# Altium schematic symbol library GRM033R71E271KA01D.SchLib: 1 symbol
Pins are listed as number, name and electrical type; pins without a type are passive.

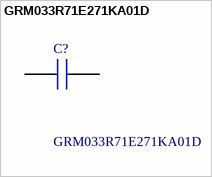
[diagram p0: symbol GRM033R71E271KA01D]

## GRM033R71E271KA01D
designator C?
Chip Capacitor value 271; Manufacturer_Name: Murata Electronics; Geometry.Height: 0.33mm; Manufacturer_Part_Number: GRM033R71E271KA01D; Mouser Part Number: *; Mouser Price/Stock: *; Arrow Part Number: *; Arrow Price/Stock: *; Datasheet Link: https://search.murata.co.jp/Ceramy/image/img/A01X/G101/ENG/GRM033R71E271KA01-01A.pdf
footprint GRM033D70J224ME01D
pins: 1, 2